# Altium schematic symbol library SR2512F-0206-19R0B-E9-N-W-159.SchLib: 1 symbol
Pins are listed as number, name and electrical type; pins without a type are passive.

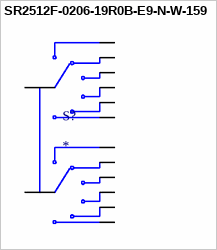
[diagram p0: symbol SR2512F-0206-19R0B-E9-N-W-159]

## SR2512F-0206-19R0B-E9-N-W-159
designator S?
Rotary Switches ROT 2POL 6POS NS PC; MP: SR2512F-0206-19R0B-E9-N-W-159; MF: Alpha (Taiwan); SnapEDA_Link: https://www.snapeda.com/parts/SR2512F-0206-19R0B-E9-N-W-159/Alpha+Taiwan/view-part/?ref=snap; Value: *; Purchase-URL: https://pricing.snapeda.com/search/part/SR2512F-0206-19R0B-E9-N-W-159/?ref=eda; Availability: In Stock; Check_prices: https://www.snapeda.com/parts/SR2512F-0206-19R0B-E9-N-W-159/Alpha+Taiwan/view-part/?ref=eda; Package: None; Price: None
footprint SW_SR2512F-0206-19R0B-E9-N-W-159
pins: 1, 2, 3, 4, 5, 6, 7, 8, 9, 10, 11, 12, A, B